# EAGLE library part MCP1640BT-I_MC (library power)
Voltage Regulators - Switching Regulators 500 kHz 300 mA Syn Boost Converter Source: Datasheet <http://docs-emea.rs-online.com/webdocs/137e/0900766b8137ea91.pdf>
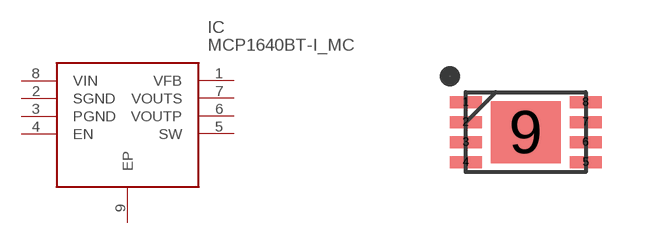
[diagram p5: symbol with the pads of SON50P300X200X100-9N; footprint SON50P300X200X100-9N]

Designator prefix IC

## MCP1640BT-I_MC (ALLIED_NUMBER: 70567506; ALLIED_PRICE-STOCK: http://www.alliedelec.com/microchip-technology-inc-mcp1640bt-i-mc/70567506/; DESCRIPTION: Voltage Regulators - Switching Regulators 500 kHz 300 mA Syn Boost Converter; HEIGHT: 1mm; MANUFACTURER_NAME: Microchip; MANUFACTURER_PART_NUMBER: MCP1640BT-I/MC; MOUSER_PART_NUMBER: 579-MCP1640BT-I/MC; MOUSER_PRICE-STOCK: https://www.mouser.com/Search/Refine.aspx?Keyword=579-MCP1640BT-I%2FMC)  [SON50P300X200X100-9N]
1  VFB
2  SGND  pwr
3  PGND  pwr
4  EN
5  SW
6  VOUTP  out
7  VOUTS  out
8  VIN  in
9  EP  pwr

## Footprint SON50P300X200X100-9N (pad centres in mm)
(MC)8-Lead(DFN)
smd 0.8 x 0.3: 1 -1.5,0.75; 2 -1.5,0.25; 3 -1.5,-0.25; 4 -1.5,-0.75; 5 1.5,-0.75; 6 1.5,-0.25; 7 1.5,0.25; 8 1.5,0.75
smd 1.75 x 1.55: 9 0,0